# EAGLE library part ADAFRUI_SD_RW (library Adafruit_Arduino)
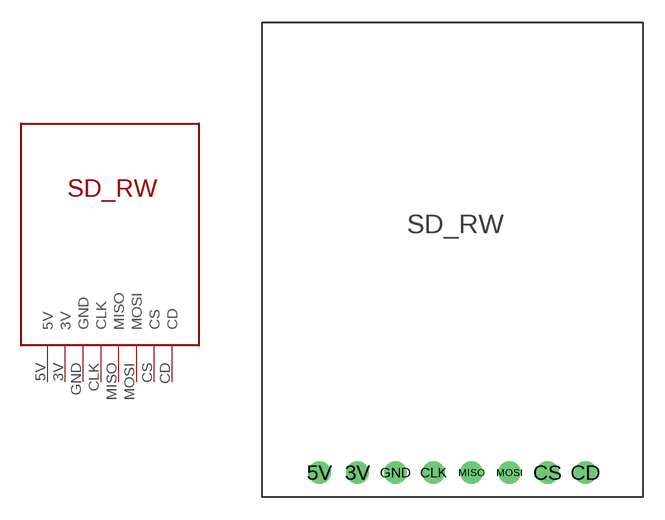
[diagram p2: symbol with the pads of ADAFRUIT_SD_RW; footprint ADAFRUIT_SD_RW]

Designator prefix -

## ADAFRUI_SD_RW  [ADAFRUIT_SD_RW]
3V  3V
5V  5V
CD  CD
CLK  CLK
CS  CS
GND  GND
MISO  MISO
MOSI  MOSI

## Footprint ADAFRUIT_SD_RW (pad centres in mm)
drill 1: 3V -6.35,-14.224; 5V -8.89,-14.224; CD 8.89,-14.224; CLK -1.27,-14.224; CS 6.35,-14.224; GND -3.81,-14.224; MISO 1.27,-14.224; MOSI 3.81,-14.224